# EAGLE library part ACT4529 (library CameraTags)
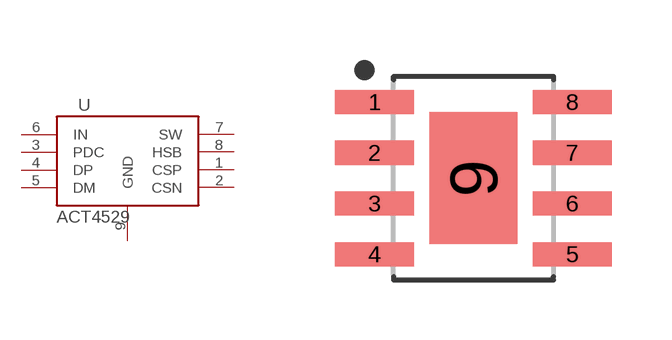
[diagram p1: symbol with the pads of SOIC127P600X172-9T220X330; footprint SOIC127P600X172-9T220X330]

Designator prefix -

## ACT4529  [SOIC127P600X172-9T220X330]
1  CSP
2  CSN
3  PDC
4  DP
5  DM
6  IN
7  SW
8  HSB
9  GND

## Footprint SOIC127P600X172-9T220X330 (pad centres in mm)
8-SOIC, 1.27 mm pitch, 6.00 mm span, 4.90 X 3.87 X 1.73 mm body, 3.30 X 2.20 mm thermal pad 8-pin SOIC package with 1.27 mm pitch, 6.00 mm span with body size 4.90 X 3.87 X 1.73 mm and thermal pad size 3.30 X 2.20 mm
smd 1.968 x 0.602: 1 -2.473,1.905; 2 -2.473,0.635; 3 -2.473,-0.635; 4 -2.473,-1.905; 5 2.473,-1.905; 6 2.473,-0.635; 7 2.473,0.635; 8 2.473,1.905
smd 2.2 x 3.3: 9 0,0